# Altium footprint library CH340.PcbLib: 1 footprints
Each footprint in its own frame and in the unit in brackets; x right, y up, seen from the top. Pads: shape width x height; smd on the part's side, far side on the other; paste and mask are expansions set on the pad; w line width, h text height; cw(c..) or ccw(c..) is an arc to the next point about the centre after c.
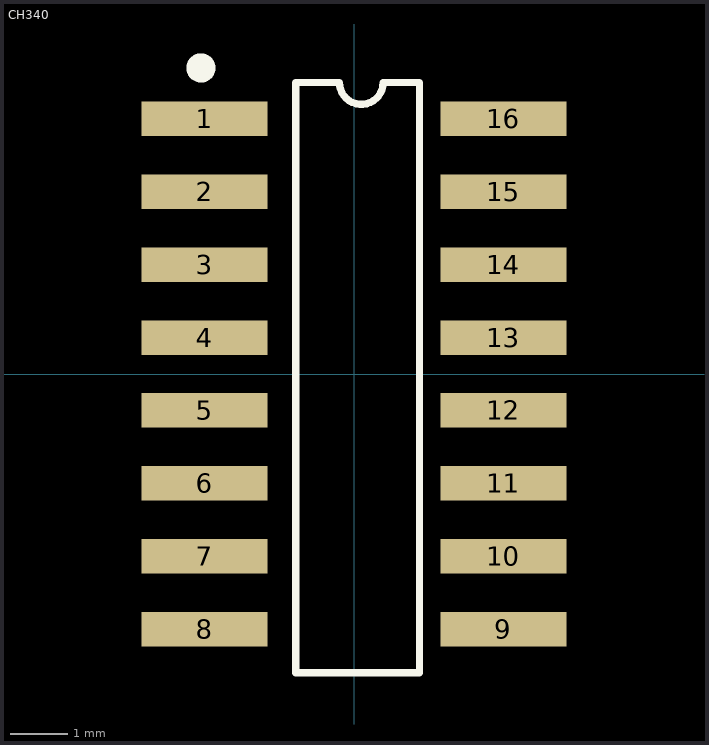
[diagram p0: the footprint, top view; thin cyan lines are the x and y axes]

## CH340 [mm] "USBתTTLоƬ"
pads (16):
  rect 2.2x0.6 smd: 1(-2.603,4.445) 2(-2.603,3.175) 3(-2.603,1.905) 4(-2.603,0.635) 5(-2.603,-0.635) 6(-2.603,-1.905) 7(-2.603,-3.175) 8(-2.603,-4.445) 9(2.603,-4.445) 10(2.603,-3.175) 11(2.603,-1.905) 12(2.603,-0.635) 13(2.603,0.635) 14(2.603,1.905) 15(2.603,3.175) 16(2.603,4.445)
Top Overlay:
  circle w0.254: c-2.667,5.334 r0.127
  lines w0.127: -1.016,-5.207 1.143,-5.207 1.143,5.08 0.508,5.08 cw(c0.127,5.08) -0.254,5.08 -1.016,5.08 -1.016,-5.207